# EAGLE library part IMC3 (library con-phoenix-381)
Invertierter Mini-Combicon 3.81mm horizontal 3-polig IMC 1,5/3-G-3,81 (ohne Gegenstecker)
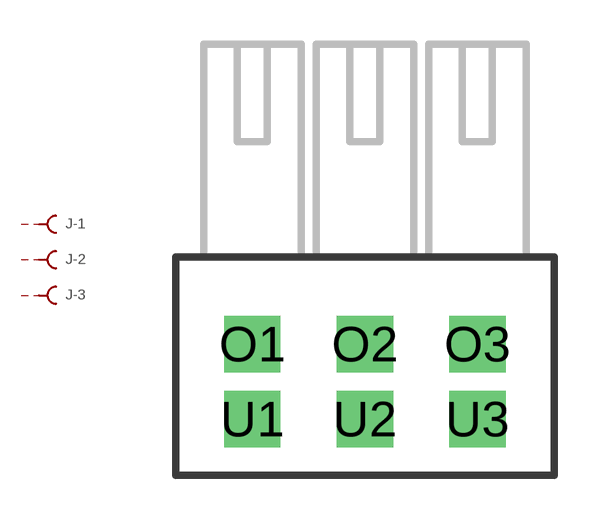
[diagram p19: symbol with the pads of IMC3; footprint IMC3]

Designator prefix J; gates -1=MCBU -2=MCBU -3=MCBU

## IMC3  [IMC3]
O1  -1:S  pas
O2  -2:S  pas
O3  -3:S  pas
U1  -1:SK  pas
U2  -2:SK  pas
U3  -3:SK  pas

## Footprint IMC3 (pad centres in mm)
Mini-Combicon 3.81mm horizontal 3-polig invertiert IMC 1,5/3-G-3,81 Artikel-Nr. 1862580
drill 1.27 square: O1 -3.81,1.27; O2 0,1.27; O3 3.81,1.27; U1 -3.81,-1.27; U2 0,-1.27; U3 3.81,-1.27